# Altium footprint library TMS320F28379DPTPT.PcbLib: 3 footprints
Each footprint in its own frame and in the unit in brackets; x right, y up, seen from the top. Pads: shape width x height; smd on the part's side, far side on the other; paste and mask are expansions set on the pad; w line width, h text height; cw(c..) or ccw(c..) is an arc to the next point about the centre after c.
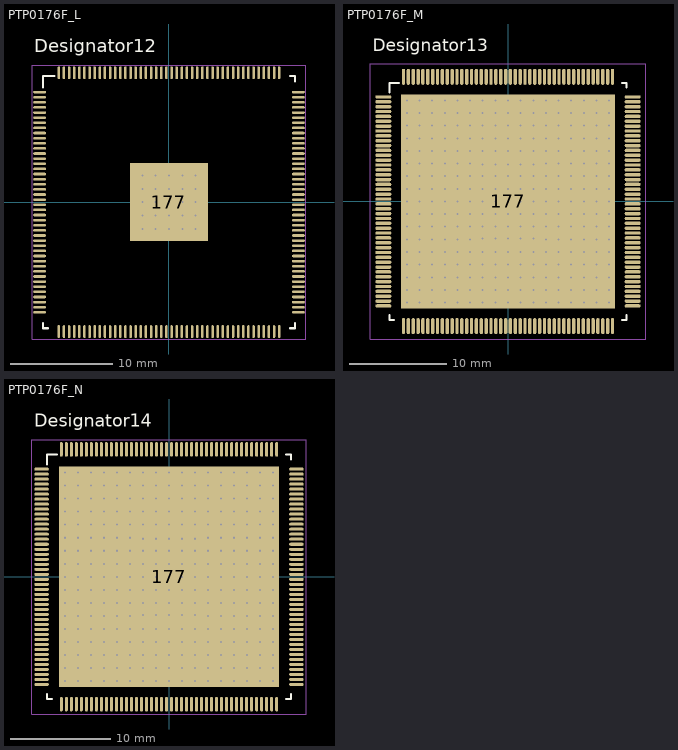
[diagram p0: the footprints below, top view; thin cyan lines are the x and y axes]

## PTP0176F_L [mm]
pads (202):
  oval 1.25x0.25 smd paste+0 mask+0.051: 1(-12.625,10.75) 2(-12.625,10.25) 3(-12.625,9.75) 4(-12.625,9.25) 5(-12.625,8.75) 6(-12.625,8.25) 7(-12.625,7.75) 8(-12.625,7.25) 9(-12.625,6.75) 10(-12.625,6.25) 11(-12.625,5.75) 12(-12.625,5.25) 13(-12.625,4.75) 14(-12.625,4.25) 15(-12.625,3.75) 16(-12.625,3.25) 17(-12.625,2.75) 18(-12.625,2.25) 19(-12.625,1.75) 20(-12.625,1.25) 21(-12.625,0.75) 22(-12.625,0.25) 23(-12.625,-0.25) 24(-12.625,-0.75) 25(-12.625,-1.25) 26(-12.625,-1.75) 27(-12.625,-2.25) 28(-12.625,-2.75) 29(-12.625,-3.25) 30(-12.625,-3.75) 31(-12.625,-4.25) 32(-12.625,-4.75) 33(-12.625,-5.25) 34(-12.625,-5.75) 35(-12.625,-6.25) 36(-12.625,-6.75) 37(-12.625,-7.25) 38(-12.625,-7.75) 39(-12.625,-8.25) 40(-12.625,-8.75) 41(-12.625,-9.25) 42(-12.625,-9.75) 43(-12.625,-10.25) 44(-12.625,-10.75) 89(12.625,-10.75) 90(12.625,-10.25) 91(12.625,-9.75) 92(12.625,-9.25) 93(12.625,-8.75) 94(12.625,-8.25) 95(12.625,-7.75) 96(12.625,-7.25) 97(12.625,-6.75) 98(12.625,-6.25) 99(12.625,-5.75) 100(12.625,-5.25) 101(12.625,-4.75) 102(12.625,-4.25) 103(12.625,-3.75) 104(12.625,-3.25) 105(12.625,-2.75) 106(12.625,-2.25) 107(12.625,-1.75) 108(12.625,-1.25) 109(12.625,-0.75) 110(12.625,-0.25) 111(12.625,0.25) 112(12.625,0.75) 113(12.625,1.25) 114(12.625,1.75) 115(12.625,2.25) 116(12.625,2.75) 117(12.625,3.25) 118(12.625,3.75) 119(12.625,4.25) 120(12.625,4.75) 121(12.625,5.25) 122(12.625,5.75) 123(12.625,6.25) 124(12.625,6.75) 125(12.625,7.25) 126(12.625,7.75) 127(12.625,8.25) 128(12.625,8.75) 129(12.625,9.25) 130(12.625,9.75) 131(12.625,10.25) 132(12.625,10.75)
  oval 0.25x1.25 smd paste+0 mask+0.051: 45(-10.75,-12.625) 46(-10.25,-12.625) 47(-9.75,-12.625) 48(-9.25,-12.625) 49(-8.75,-12.625) 50(-8.25,-12.625) 51(-7.75,-12.625) 52(-7.25,-12.625) 53(-6.75,-12.625) 54(-6.25,-12.625) 55(-5.75,-12.625) 56(-5.25,-12.625) 57(-4.75,-12.625) 58(-4.25,-12.625) 59(-3.75,-12.625) 60(-3.25,-12.625) 61(-2.75,-12.625) 62(-2.25,-12.625) 63(-1.75,-12.625) 64(-1.25,-12.625) 65(-0.75,-12.625) 66(-0.25,-12.625) 67(0.25,-12.625) 68(0.75,-12.625) 69(1.25,-12.625) 70(1.75,-12.625) 71(2.25,-12.625) 72(2.75,-12.625) 73(3.25,-12.625) 74(3.75,-12.625) 75(4.25,-12.625) 76(4.75,-12.625) 77(5.25,-12.625) 78(5.75,-12.625) 79(6.25,-12.625) 80(6.75,-12.625) 81(7.25,-12.625) 82(7.75,-12.625) 83(8.25,-12.625) 84(8.75,-12.625) 85(9.25,-12.625) 86(9.75,-12.625) 87(10.25,-12.625) 88(10.75,-12.625) 133(10.75,12.625) 134(10.25,12.625) 135(9.75,12.625) 136(9.25,12.625) 137(8.75,12.625) 138(8.25,12.625) 139(7.75,12.625) 140(7.25,12.625) 141(6.75,12.625) 142(6.25,12.625) 143(5.75,12.625) 144(5.25,12.625) 145(4.75,12.625) 146(4.25,12.625) 147(3.75,12.625) 148(3.25,12.625) 149(2.75,12.625) 150(2.25,12.625) 151(1.75,12.625) 152(1.25,12.625) 153(0.75,12.625) 154(0.25,12.625) 155(-0.25,12.625) 156(-0.75,12.625) 157(-1.25,12.625) 158(-1.75,12.625) 159(-2.25,12.625) 160(-2.75,12.625) 161(-3.25,12.625) 162(-3.75,12.625) 163(-4.25,12.625) 164(-4.75,12.625) 165(-5.25,12.625) 166(-5.75,12.625) 167(-6.25,12.625) 168(-6.75,12.625) 169(-7.25,12.625) 170(-7.75,12.625) 171(-8.25,12.625) 172(-8.75,12.625) 173(-9.25,12.625) 174(-9.75,12.625) 175(-10.25,12.625) 176(-10.75,12.625)
  rect 7.62x7.62 smd paste-10.987 mask+0.051: 177(0,0)
  round 0.5 / inner round 1.524 / far side round 0.5 hole 0.203 mask+0.051: V(-2.6,-2.6) V(-2.6,-1.3) V(-2.6,0) V(-2.6,1.3) V(-2.6,2.6) V(-1.3,-2.6) V(-1.3,-1.3) V(-1.3,0) V(-1.3,1.3) V(-1.3,2.6) V(0,-2.6) V(0,-1.3) V(0,0) V(0,1.3) V(0,2.6) V(1.3,-2.6) V(1.3,-1.3) V(1.3,0) V(1.3,1.3) V(1.3,2.6) V(2.6,-2.6) V(2.6,-1.3) V(2.6,0) V(2.6,1.3) V(2.6,2.6)
Top Overlay:
  lines w0.2: -12.3,-11.8 -12.3,-12.3 -11.8,-12.3 ; -12.3,11.2 -12.3,12.3 -11.2,12.3 ; 11.8,-12.3 12.3,-12.3 12.3,-11.8 ; 11.8,12.3 12.3,12.3 12.3,11.8
  text "Designator12" at -13.132,14.656 h1.27
  text "TOL" at 0,0 h1.27
  text "VAL" at 0,0 h1.27
  text "PN" at 0,0 h1.27
  text "DEV" at 0,0 h1.27
Top Paste:
  region: -3.65,4.035 -3.65,-4.035 3.655,-4.035 3.655,4.035
Mechanical 15:
  lines w0.05: -13.35,-13.35 -13.35,13.35 13.35,13.35 13.35,-13.35 -13.35,-13.35
  lines w0.1: -0.5,0 0.5,0 ; 0,-0.5 0,0.5
3D body: height 0.25, standoff 0, extent 0,0 0.254,0.254

## PTP0176F_M [mm]
pads (466):
  oval 1.65x0.35 smd paste+0 mask+0.051: 1(-12.825,10.75) 2(-12.825,10.25) 3(-12.825,9.75) 4(-12.825,9.25) 5(-12.825,8.75) 6(-12.825,8.25) 7(-12.825,7.75) 8(-12.825,7.25) 9(-12.825,6.75) 10(-12.825,6.25) 11(-12.825,5.75) 12(-12.825,5.25) 13(-12.825,4.75) 14(-12.825,4.25) 15(-12.825,3.75) 16(-12.825,3.25) 17(-12.825,2.75) 18(-12.825,2.25) 19(-12.825,1.75) 20(-12.825,1.25) 21(-12.825,0.75) 22(-12.825,0.25) 23(-12.825,-0.25) 24(-12.825,-0.75) 25(-12.825,-1.25) 26(-12.825,-1.75) 27(-12.825,-2.25) 28(-12.825,-2.75) 29(-12.825,-3.25) 30(-12.825,-3.75) 31(-12.825,-4.25) 32(-12.825,-4.75) 33(-12.825,-5.25) 34(-12.825,-5.75) 35(-12.825,-6.25) 36(-12.825,-6.75) 37(-12.825,-7.25) 38(-12.825,-7.75) 39(-12.825,-8.25) 40(-12.825,-8.75) 41(-12.825,-9.25) 42(-12.825,-9.75) 43(-12.825,-10.25) 44(-12.825,-10.75) 89(12.825,-10.75) 90(12.825,-10.25) 91(12.825,-9.75) 92(12.825,-9.25) 93(12.825,-8.75) 94(12.825,-8.25) 95(12.825,-7.75) 96(12.825,-7.25) 97(12.825,-6.75) 98(12.825,-6.25) 99(12.825,-5.75) 100(12.825,-5.25) 101(12.825,-4.75) 102(12.825,-4.25) 103(12.825,-3.75) 104(12.825,-3.25) 105(12.825,-2.75) 106(12.825,-2.25) 107(12.825,-1.75) 108(12.825,-1.25) 109(12.825,-0.75) 110(12.825,-0.25) 111(12.825,0.25) 112(12.825,0.75) 113(12.825,1.25) 114(12.825,1.75) 115(12.825,2.25) 116(12.825,2.75) 117(12.825,3.25) 118(12.825,3.75) 119(12.825,4.25) 120(12.825,4.75) 121(12.825,5.25) 122(12.825,5.75) 123(12.825,6.25) 124(12.825,6.75) 125(12.825,7.25) 126(12.825,7.75) 127(12.825,8.25) 128(12.825,8.75) 129(12.825,9.25) 130(12.825,9.75) 131(12.825,10.25) 132(12.825,10.75)
  oval 0.35x1.65 smd paste+0 mask+0.051: 45(-10.75,-12.825) 46(-10.25,-12.825) 47(-9.75,-12.825) 48(-9.25,-12.825) 49(-8.75,-12.825) 50(-8.25,-12.825) 51(-7.75,-12.825) 52(-7.25,-12.825) 53(-6.75,-12.825) 54(-6.25,-12.825) 55(-5.75,-12.825) 56(-5.25,-12.825) 57(-4.75,-12.825) 58(-4.25,-12.825) 59(-3.75,-12.825) 60(-3.25,-12.825) 61(-2.75,-12.825) 62(-2.25,-12.825) 63(-1.75,-12.825) 64(-1.25,-12.825) 65(-0.75,-12.825) 66(-0.25,-12.825) 67(0.25,-12.825) 68(0.75,-12.825) 69(1.25,-12.825) 70(1.75,-12.825) 71(2.25,-12.825) 72(2.75,-12.825) 73(3.25,-12.825) 74(3.75,-12.825) 75(4.25,-12.825) 76(4.75,-12.825) 77(5.25,-12.825) 78(5.75,-12.825) 79(6.25,-12.825) 80(6.75,-12.825) 81(7.25,-12.825) 82(7.75,-12.825) 83(8.25,-12.825) 84(8.75,-12.825) 85(9.25,-12.825) 86(9.75,-12.825) 87(10.25,-12.825) 88(10.75,-12.825) 133(10.75,12.825) 134(10.25,12.825) 135(9.75,12.825) 136(9.25,12.825) 137(8.75,12.825) 138(8.25,12.825) 139(7.75,12.825) 140(7.25,12.825) 141(6.75,12.825) 142(6.25,12.825) 143(5.75,12.825) 144(5.25,12.825) 145(4.75,12.825) 146(4.25,12.825) 147(3.75,12.825) 148(3.25,12.825) 149(2.75,12.825) 150(2.25,12.825) 151(1.75,12.825) 152(1.25,12.825) 153(0.75,12.825) 154(0.25,12.825) 155(-0.25,12.825) 156(-0.75,12.825) 157(-1.25,12.825) 158(-1.75,12.825) 159(-2.25,12.825) 160(-2.75,12.825) 161(-3.25,12.825) 162(-3.75,12.825) 163(-4.25,12.825) 164(-4.75,12.825) 165(-5.25,12.825) 166(-5.75,12.825) 167(-6.25,12.825) 168(-6.75,12.825) 169(-7.25,12.825) 170(-7.75,12.825) 171(-8.25,12.825) 172(-8.75,12.825) 173(-9.25,12.825) 174(-9.75,12.825) 175(-10.25,12.825) 176(-10.75,12.825)
  rect 22x22 smd paste-10.987 mask+0.051: 177(0,0)
  round 0.5 / inner round 1.524 / far side round 0.5 hole 0.203 mask+0.051: V(-10.4,-10.4) V(-10.4,-9.1) V(-10.4,-7.8) V(-10.4,-6.5) V(-10.4,-5.2) V(-10.4,-3.9) V(-10.4,-2.6) V(-10.4,-1.3) V(-10.4,0) V(-10.4,1.3) V(-10.4,2.6) V(-10.4,3.9) V(-10.4,5.2) V(-10.4,6.5) V(-10.4,7.8) V(-10.4,9.1) V(-10.4,10.4) V(-9.1,-10.4) V(-9.1,-9.1) V(-9.1,-7.8) V(-9.1,-6.5) V(-9.1,-5.2) V(-9.1,-3.9) V(-9.1,-2.6) V(-9.1,-1.3) V(-9.1,0) V(-9.1,1.3) V(-9.1,2.6) V(-9.1,3.9) V(-9.1,5.2) V(-9.1,6.5) V(-9.1,7.8) V(-9.1,9.1) V(-9.1,10.4) V(-7.8,-10.4) V(-7.8,-9.1) V(-7.8,-7.8) V(-7.8,-6.5) V(-7.8,-5.2) V(-7.8,-3.9) V(-7.8,-2.6) V(-7.8,-1.3) V(-7.8,0) V(-7.8,1.3) V(-7.8,2.6) V(-7.8,3.9) V(-7.8,5.2) V(-7.8,6.5) V(-7.8,7.8) V(-7.8,9.1) V(-7.8,10.4) V(-6.5,-10.4) V(-6.5,-9.1) V(-6.5,-7.8) V(-6.5,-6.5) V(-6.5,-5.2) V(-6.5,-3.9) V(-6.5,-2.6) V(-6.5,-1.3) V(-6.5,0) V(-6.5,1.3) V(-6.5,2.6) V(-6.5,3.9) V(-6.5,5.2) V(-6.5,6.5) V(-6.5,7.8) V(-6.5,9.1) V(-6.5,10.4) V(-5.2,-10.4) V(-5.2,-9.1) V(-5.2,-7.8) V(-5.2,-6.5) V(-5.2,-5.2) V(-5.2,-3.9) V(-5.2,-2.6) V(-5.2,-1.3) V(-5.2,0) V(-5.2,1.3) V(-5.2,2.6) V(-5.2,3.9) V(-5.2,5.2) V(-5.2,6.5) V(-5.2,7.8) V(-5.2,9.1) V(-5.2,10.4) V(-3.9,-10.4) V(-3.9,-9.1) V(-3.9,-7.8) V(-3.9,-6.5) V(-3.9,-5.2) V(-3.9,-3.9) V(-3.9,-2.6) V(-3.9,-1.3) V(-3.9,0) V(-3.9,1.3) V(-3.9,2.6) V(-3.9,3.9) V(-3.9,5.2) V(-3.9,6.5) V(-3.9,7.8) V(-3.9,9.1) V(-3.9,10.4) V(-2.6,-10.4) V(-2.6,-9.1) V(-2.6,-7.8) V(-2.6,-6.5) V(-2.6,-5.2) V(-2.6,-3.8) V(-2.6,-2.6) V(-2.6,-1.3) V(-2.6,0) V(-2.6,1.3) V(-2.6,2.6) V(-2.6,3.8) V(-2.6,5.2) V(-2.6,6.5) V(-2.6,7.8) V(-2.6,9.1) V(-2.6,10.4) V(-1.3,-10.4) V(-1.3,-9.1) V(-1.3,-7.8) V(-1.3,-6.5) V(-1.3,-5.2) V(-1.3,-3.8) V(-1.3,-2.6) V(-1.3,-1.3) V(-1.3,0) V(-1.3,1.3) V(-1.3,2.6) V(-1.3,3.8) V(-1.3,5.2) V(-1.3,6.5) V(-1.3,7.8) V(-1.3,9.1) V(-1.3,10.4) V(0,-10.4) V(0,-9.1) V(0,-7.8) V(0,-6.5) V(0,-5.2) V(0,-3.8) V(0,-2.6) V(0,-1.3) V(0,0) V(0,1.3) V(0,2.6) V(0,3.8) V(0,5.2) V(0,6.5) V(0,7.8) V(0,9.1) V(0,10.4) V(1.3,-10.4) V(1.3,-9.1) V(1.3,-7.8) V(1.3,-6.5) V(1.3,-5.2) V(1.3,-3.8) V(1.3,-2.6) V(1.3,-1.3) V(1.3,0) V(1.3,1.3) V(1.3,2.6) V(1.3,3.8) V(1.3,5.2) V(1.3,6.5) V(1.3,7.8) V(1.3,9.1) V(1.3,10.4) V(2.6,-10.4) V(2.6,-9.1) V(2.6,-7.8) V(2.6,-6.5) V(2.6,-5.2) V(2.6,-3.8) V(2.6,-2.6) V(2.6,-1.3) V(2.6,0) V(2.6,1.3) V(2.6,2.6) V(2.6,3.8) V(2.6,5.2) V(2.6,6.5) V(2.6,7.8) V(2.6,9.1) V(2.6,10.4) V(3.9,-10.4) V(3.9,-9.1) V(3.9,-7.8) V(3.9,-6.5) V(3.9,-5.2) V(3.9,-3.9) V(3.9,-2.6) V(3.9,-1.3) V(3.9,0) V(3.9,1.3) V(3.9,2.6) V(3.9,3.9) V(3.9,5.2) V(3.9,6.5) V(3.9,7.8) V(3.9,9.1) V(3.9,10.4) V(5.2,-10.4) V(5.2,-9.1) V(5.2,-7.8) V(5.2,-6.5) V(5.2,-5.2) V(5.2,-3.9) V(5.2,-2.6) V(5.2,-1.3) V(5.2,0) V(5.2,1.3) V(5.2,2.6) V(5.2,3.9) V(5.2,5.2) V(5.2,6.5) V(5.2,7.8) V(5.2,9.1) V(5.2,10.4) V(6.5,-10.4) V(6.5,-9.1) V(6.5,-7.8) V(6.5,-6.5) V(6.5,-5.2) V(6.5,-3.9) V(6.5,-2.6) V(6.5,-1.3) V(6.5,0) V(6.5,1.3) V(6.5,2.6) V(6.5,3.9) V(6.5,5.2) V(6.5,6.5) V(6.5,7.8) V(6.5,9.1) V(6.5,10.4) V(7.8,-10.4) V(7.8,-9.1) V(7.8,-7.8) V(7.8,-6.5) V(7.8,-5.2) V(7.8,-3.9) V(7.8,-2.6) V(7.8,-1.3) V(7.8,0) V(7.8,1.3) V(7.8,2.6) V(7.8,3.9) V(7.8,5.2) V(7.8,6.5) V(7.8,7.8) V(7.8,9.1) V(7.8,10.4) V(9.1,-10.4) V(9.1,-9.1) V(9.1,-7.8) V(9.1,-6.5) V(9.1,-5.2) V(9.1,-3.9) V(9.1,-2.6) V(9.1,-1.3) V(9.1,0) V(9.1,1.3) V(9.1,2.6) V(9.1,3.9) V(9.1,5.2) V(9.1,6.5) V(9.1,7.8) V(9.1,9.1) V(9.1,10.4) V(10.4,-10.4) V(10.4,-9.1) V(10.4,-7.8) V(10.4,-6.5) V(10.4,-5.2) V(10.4,-3.9) V(10.4,-2.6) V(10.4,-1.3) V(10.4,0) V(10.4,1.3) V(10.4,2.6) V(10.4,3.9) V(10.4,5.2) V(10.4,6.5) V(10.4,7.8) V(10.4,9.1) V(10.4,10.4)
Top Overlay:
  lines w0.2: -12.2,-11.7 -12.2,-12.2 -11.7,-12.2 ; -12.2,11.2 -12.2,12.2 -11.2,12.2 ; 11.7,-12.2 12.2,-12.2 12.2,-11.7 ; 11.7,12.2 12.2,12.2 12.2,11.7
  text "DEV" at 0,0 h1.27
  text "PN" at 0,0 h1.27
  text "VAL" at 0,0 h1.27
  text "TOL" at 0,0 h1.27
  text "Designator13" at -13.919,15.443 h1.27
Top Paste:
  region: -3.65,4.035 -3.65,-4.035 3.655,-4.035 3.655,4.035
Mechanical 13:
  text ".Designator" at -1.6,-0.4 h1.27
Mechanical 15:
  lines w0.05: -14.15,-14.15 14.15,-14.15 14.15,14.15 -14.15,14.15 -14.15,-14.15
  lines w0.1: -0.5,0 0.5,0 ; 0,-0.5 0,0.5
3D body: height 0.25, standoff 0, extent 0,0 0.254,0.254

## PTP0176F_N [mm]
pads (466):
  oval 1.45x0.3 smd paste+0 mask+0.051: 1(-12.725,10.75) 2(-12.725,10.25) 3(-12.725,9.75) 4(-12.725,9.25) 5(-12.725,8.75) 6(-12.725,8.25) 7(-12.725,7.75) 8(-12.725,7.25) 9(-12.725,6.75) 10(-12.725,6.25) 11(-12.725,5.75) 12(-12.725,5.25) 13(-12.725,4.75) 14(-12.725,4.25) 15(-12.725,3.75) 16(-12.725,3.25) 17(-12.725,2.75) 18(-12.725,2.25) 19(-12.725,1.75) 20(-12.725,1.25) 21(-12.725,0.75) 22(-12.725,0.25) 23(-12.725,-0.25) 24(-12.725,-0.75) 25(-12.725,-1.25) 26(-12.725,-1.75) 27(-12.725,-2.25) 28(-12.725,-2.75) 29(-12.725,-3.25) 30(-12.725,-3.75) 31(-12.725,-4.25) 32(-12.725,-4.75) 33(-12.725,-5.25) 34(-12.725,-5.75) 35(-12.725,-6.25) 36(-12.725,-6.75) 37(-12.725,-7.25) 38(-12.725,-7.75) 39(-12.725,-8.25) 40(-12.725,-8.75) 41(-12.725,-9.25) 42(-12.725,-9.75) 43(-12.725,-10.25) 44(-12.725,-10.75) 89(12.725,-10.75) 90(12.725,-10.25) 91(12.725,-9.75) 92(12.725,-9.25) 93(12.725,-8.75) 94(12.725,-8.25) 95(12.725,-7.75) 96(12.725,-7.25) 97(12.725,-6.75) 98(12.725,-6.25) 99(12.725,-5.75) 100(12.725,-5.25) 101(12.725,-4.75) 102(12.725,-4.25) 103(12.725,-3.75) 104(12.725,-3.25) 105(12.725,-2.75) 106(12.725,-2.25) 107(12.725,-1.75) 108(12.725,-1.25) 109(12.725,-0.75) 110(12.725,-0.25) 111(12.725,0.25) 112(12.725,0.75) 113(12.725,1.25) 114(12.725,1.75) 115(12.725,2.25) 116(12.725,2.75) 117(12.725,3.25) 118(12.725,3.75) 119(12.725,4.25) 120(12.725,4.75) 121(12.725,5.25) 122(12.725,5.75) 123(12.725,6.25) 124(12.725,6.75) 125(12.725,7.25) 126(12.725,7.75) 127(12.725,8.25) 128(12.725,8.75) 129(12.725,9.25) 130(12.725,9.75) 131(12.725,10.25) 132(12.725,10.75)
  oval 0.3x1.45 smd paste+0 mask+0.051: 45(-10.75,-12.725) 46(-10.25,-12.725) 47(-9.75,-12.725) 48(-9.25,-12.725) 49(-8.75,-12.725) 50(-8.25,-12.725) 51(-7.75,-12.725) 52(-7.25,-12.725) 53(-6.75,-12.725) 54(-6.25,-12.725) 55(-5.75,-12.725) 56(-5.25,-12.725) 57(-4.75,-12.725) 58(-4.25,-12.725) 59(-3.75,-12.725) 60(-3.25,-12.725) 61(-2.75,-12.725) 62(-2.25,-12.725) 63(-1.75,-12.725) 64(-1.25,-12.725) 65(-0.75,-12.725) 66(-0.25,-12.725) 67(0.25,-12.725) 68(0.75,-12.725) 69(1.25,-12.725) 70(1.75,-12.725) 71(2.25,-12.725) 72(2.75,-12.725) 73(3.25,-12.725) 74(3.75,-12.725) 75(4.25,-12.725) 76(4.75,-12.725) 77(5.25,-12.725) 78(5.75,-12.725) 79(6.25,-12.725) 80(6.75,-12.725) 81(7.25,-12.725) 82(7.75,-12.725) 83(8.25,-12.725) 84(8.75,-12.725) 85(9.25,-12.725) 86(9.75,-12.725) 87(10.25,-12.725) 88(10.75,-12.725) 133(10.75,12.725) 134(10.25,12.725) 135(9.75,12.725) 136(9.25,12.725) 137(8.75,12.725) 138(8.25,12.725) 139(7.75,12.725) 140(7.25,12.725) 141(6.75,12.725) 142(6.25,12.725) 143(5.75,12.725) 144(5.25,12.725) 145(4.75,12.725) 146(4.25,12.725) 147(3.75,12.725) 148(3.25,12.725) 149(2.75,12.725) 150(2.25,12.725) 151(1.75,12.725) 152(1.25,12.725) 153(0.75,12.725) 154(0.25,12.725) 155(-0.25,12.725) 156(-0.75,12.725) 157(-1.25,12.725) 158(-1.75,12.725) 159(-2.25,12.725) 160(-2.75,12.725) 161(-3.25,12.725) 162(-3.75,12.725) 163(-4.25,12.725) 164(-4.75,12.725) 165(-5.25,12.725) 166(-5.75,12.725) 167(-6.25,12.725) 168(-6.75,12.725) 169(-7.25,12.725) 170(-7.75,12.725) 171(-8.25,12.725) 172(-8.75,12.725) 173(-9.25,12.725) 174(-9.75,12.725) 175(-10.25,12.725) 176(-10.75,12.725)
  rect 22x22 smd paste-10.987 mask+0.051: 177(0,0)
  round 0.5 / inner round 1.524 / far side round 0.5 hole 0.203 mask+0.051: V(-10.4,-10.4) V(-10.4,-9.1) V(-10.4,-7.8) V(-10.4,-6.5) V(-10.4,-5.2) V(-10.4,-3.9) V(-10.4,-2.6) V(-10.4,-1.3) V(-10.4,0) V(-10.4,1.3) V(-10.4,2.6) V(-10.4,3.9) V(-10.4,5.2) V(-10.4,6.5) V(-10.4,7.8) V(-10.4,9.1) V(-10.4,10.4) V(-9.1,-10.4) V(-9.1,-9.1) V(-9.1,-7.8) V(-9.1,-6.5) V(-9.1,-5.2) V(-9.1,-3.9) V(-9.1,-2.6) V(-9.1,-1.3) V(-9.1,0) V(-9.1,1.3) V(-9.1,2.6) V(-9.1,3.9) V(-9.1,5.2) V(-9.1,6.5) V(-9.1,7.8) V(-9.1,9.1) V(-9.1,10.4) V(-7.8,-10.4) V(-7.8,-9.1) V(-7.8,-7.8) V(-7.8,-6.5) V(-7.8,-5.2) V(-7.8,-3.9) V(-7.8,-2.6) V(-7.8,-1.3) V(-7.8,0) V(-7.8,1.3) V(-7.8,2.6) V(-7.8,3.9) V(-7.8,5.2) V(-7.8,6.5) V(-7.8,7.8) V(-7.8,9.1) V(-7.8,10.4) V(-6.5,-10.4) V(-6.5,-9.1) V(-6.5,-7.8) V(-6.5,-6.5) V(-6.5,-5.2) V(-6.5,-3.9) V(-6.5,-2.6) V(-6.5,-1.3) V(-6.5,0) V(-6.5,1.3) V(-6.5,2.6) V(-6.5,3.9) V(-6.5,5.2) V(-6.5,6.5) V(-6.5,7.8) V(-6.5,9.1) V(-6.5,10.4) V(-5.2,-10.4) V(-5.2,-9.1) V(-5.2,-7.8) V(-5.2,-6.5) V(-5.2,-5.2) V(-5.2,-3.9) V(-5.2,-2.6) V(-5.2,-1.3) V(-5.2,0) V(-5.2,1.3) V(-5.2,2.6) V(-5.2,3.9) V(-5.2,5.2) V(-5.2,6.5) V(-5.2,7.8) V(-5.2,9.1) V(-5.2,10.4) V(-3.9,-10.4) V(-3.9,-9.1) V(-3.9,-7.8) V(-3.9,-6.5) V(-3.9,-5.2) V(-3.9,-3.9) V(-3.9,-2.6) V(-3.9,-1.3) V(-3.9,0) V(-3.9,1.3) V(-3.9,2.6) V(-3.9,3.9) V(-3.9,5.2) V(-3.9,6.5) V(-3.9,7.8) V(-3.9,9.1) V(-3.9,10.4) V(-2.6,-10.4) V(-2.6,-9.1) V(-2.6,-7.8) V(-2.6,-6.5) V(-2.6,-5.2) V(-2.6,-3.8) V(-2.6,-2.6) V(-2.6,-1.3) V(-2.6,0) V(-2.6,1.3) V(-2.6,2.6) V(-2.6,3.8) V(-2.6,5.2) V(-2.6,6.5) V(-2.6,7.8) V(-2.6,9.1) V(-2.6,10.4) V(-1.3,-10.4) V(-1.3,-9.1) V(-1.3,-7.8) V(-1.3,-6.5) V(-1.3,-5.2) V(-1.3,-3.8) V(-1.3,-2.6) V(-1.3,-1.3) V(-1.3,0) V(-1.3,1.3) V(-1.3,2.6) V(-1.3,3.8) V(-1.3,5.2) V(-1.3,6.5) V(-1.3,7.8) V(-1.3,9.1) V(-1.3,10.4) V(0,-10.4) V(0,-9.1) V(0,-7.8) V(0,-6.5) V(0,-5.2) V(0,-3.8) V(0,-2.6) V(0,-1.3) V(0,0) V(0,1.3) V(0,2.6) V(0,3.8) V(0,5.2) V(0,6.5) V(0,7.8) V(0,9.1) V(0,10.4) V(1.3,-10.4) V(1.3,-9.1) V(1.3,-7.8) V(1.3,-6.5) V(1.3,-5.2) V(1.3,-3.8) V(1.3,-2.6) V(1.3,-1.3) V(1.3,0) V(1.3,1.3) V(1.3,2.6) V(1.3,3.8) V(1.3,5.2) V(1.3,6.5) V(1.3,7.8) V(1.3,9.1) V(1.3,10.4) V(2.6,-10.4) V(2.6,-9.1) V(2.6,-7.8) V(2.6,-6.5) V(2.6,-5.2) V(2.6,-3.8) V(2.6,-2.6) V(2.6,-1.3) V(2.6,0) V(2.6,1.3) V(2.6,2.6) V(2.6,3.8) V(2.6,5.2) V(2.6,6.5) V(2.6,7.8) V(2.6,9.1) V(2.6,10.4) V(3.9,-10.4) V(3.9,-9.1) V(3.9,-7.8) V(3.9,-6.5) V(3.9,-5.2) V(3.9,-3.9) V(3.9,-2.6) V(3.9,-1.3) V(3.9,0) V(3.9,1.3) V(3.9,2.6) V(3.9,3.9) V(3.9,5.2) V(3.9,6.5) V(3.9,7.8) V(3.9,9.1) V(3.9,10.4) V(5.2,-10.4) V(5.2,-9.1) V(5.2,-7.8) V(5.2,-6.5) V(5.2,-5.2) V(5.2,-3.9) V(5.2,-2.6) V(5.2,-1.3) V(5.2,0) V(5.2,1.3) V(5.2,2.6) V(5.2,3.9) V(5.2,5.2) V(5.2,6.5) V(5.2,7.8) V(5.2,9.1) V(5.2,10.4) V(6.5,-10.4) V(6.5,-9.1) V(6.5,-7.8) V(6.5,-6.5) V(6.5,-5.2) V(6.5,-3.9) V(6.5,-2.6) V(6.5,-1.3) V(6.5,0) V(6.5,1.3) V(6.5,2.6) V(6.5,3.9) V(6.5,5.2) V(6.5,6.5) V(6.5,7.8) V(6.5,9.1) V(6.5,10.4) V(7.8,-10.4) V(7.8,-9.1) V(7.8,-7.8) V(7.8,-6.5) V(7.8,-5.2) V(7.8,-3.9) V(7.8,-2.6) V(7.8,-1.3) V(7.8,0) V(7.8,1.3) V(7.8,2.6) V(7.8,3.9) V(7.8,5.2) V(7.8,6.5) V(7.8,7.8) V(7.8,9.1) V(7.8,10.4) V(9.1,-10.4) V(9.1,-9.1) V(9.1,-7.8) V(9.1,-6.5) V(9.1,-5.2) V(9.1,-3.9) V(9.1,-2.6) V(9.1,-1.3) V(9.1,0) V(9.1,1.3) V(9.1,2.6) V(9.1,3.9) V(9.1,5.2) V(9.1,6.5) V(9.1,7.8) V(9.1,9.1) V(9.1,10.4) V(10.4,-10.4) V(10.4,-9.1) V(10.4,-7.8) V(10.4,-6.5) V(10.4,-5.2) V(10.4,-3.9) V(10.4,-2.6) V(10.4,-1.3) V(10.4,0) V(10.4,1.3) V(10.4,2.6) V(10.4,3.9) V(10.4,5.2) V(10.4,6.5) V(10.4,7.8) V(10.4,9.1) V(10.4,10.4)
Top Overlay:
  lines w0.2: -12.2,-11.7 -12.2,-12.2 -11.7,-12.2 ; -12.2,11.2 -12.2,12.2 -11.2,12.2 ; 11.7,-12.2 12.2,-12.2 12.2,-11.7 ; 11.7,12.2 12.2,12.2 12.2,11.7
  text "Designator14" at -13.462,14.986 h1.27
  text "TOL" at 0,0 h1.27
  text "VAL" at 0,0 h1.27
  text "PN" at 0,0 h1.27
  text "DEV" at 0,0 h1.27
Top Paste:
  region: -3.65,4.035 -3.65,-4.035 3.655,-4.035 3.655,4.035
Mechanical 13:
  text ".Designator" at -1.524,-0.508 h1.27
Mechanical 15:
  lines w0.05: -13.7,-13.7 13.7,-13.7 13.7,13.7 -13.7,13.7 -13.7,-13.7
  lines w0.1: -0.5,0 0.5,0 ; 0,-0.5 0,0.5
3D body: height 0.25, standoff 0, extent 0,0 0.254,0.254